# EAGLE library part 3X2 (library 3M_372xx)
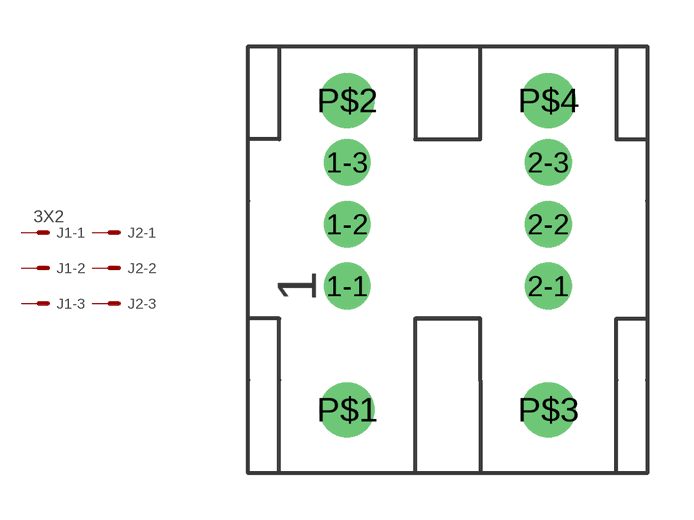
[diagram p0: symbol with the pads of 37206-62A3-003; footprint 37206-62A3-003]

Designator prefix J; gates 1-1=MV 1-2=M 1-3=M 2-1=M 2-2=M 2-3=M

## 3X2A  [37206-62A3-003]
1-1  1-1:S  pas
1-2  1-2:S  pas
1-3  1-3:S  pas
2-1  2-1:S  pas
2-2  2-2:S  pas
2-3  2-3:S  pas

## Footprint 37206-62A3-003 (pad centres in mm)
drill 1: 1-1 0,4; 1-2 0,6; 1-3 0,8; 2-1 6.5,4; 2-2 6.5,6; 2-3 6.5,8
drill 1 pad 1.778: P$1 0,0; P$2 0,10; P$3 6.5,0; P$4 6.5,10